# EAGLE library part DRV8313 (library stepOSP)
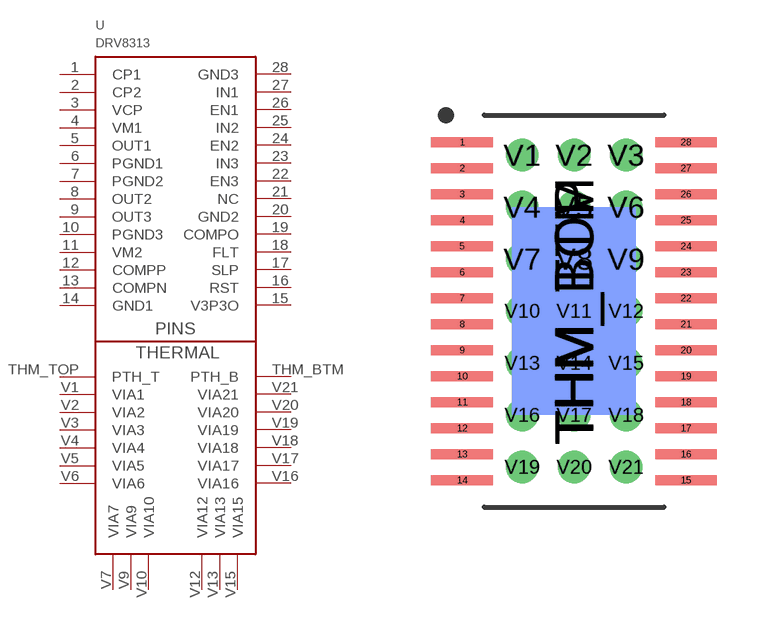
[diagram p6: symbol with the pads of DRV8313; footprint DRV8313]

Designator prefix -

## DRV8313  [DRV8313]
1  CP1
2  CP2
3  VCP
4  VM1
5  OUT1
6  PGND1
7  PGND2
8  OUT2
9  OUT3
10  PGND3
11  VM2
12  COMPP
13  COMPN
14  GND1
15  V3P3O
16  RST
17  SLP
18  FLT
19  COMPO
20  GND2
21  NC
22  EN3
23  IN3
24  EN2
25  IN2
26  EN1
27  IN1
28  GND3
THM_BTM  PTH_B
THM_TOP  PTH_T
V1  VIA1
V2  VIA2
V3  VIA3
V4  VIA4
V5  VIA5
V6  VIA6
V7  VIA7
V9  VIA9
V10  VIA10
V12  VIA12
V13  VIA13
V15  VIA15
V16  VIA16
V17  VIA17
V18  VIA18
V19  VIA19
V20  VIA20
V21  VIA21

## Footprint DRV8313 (pad centres in mm)
smd 1.55 x 0.25: 1 -2.8,4.225; 2 -2.8,3.575; 3 -2.8,2.925; 4 -2.8,2.275; 5 -2.8,1.625; 6 -2.8,0.975; 7 -2.8,0.325; 8 -2.8,-0.325; 9 -2.8,-0.975; 10 -2.8,-1.625; 11 -2.8,-2.275; 12 -2.8,-2.925; 13 -2.8,-3.575; 14 -2.8,-4.225; 15 2.8,-4.225; 16 2.8,-3.575; 17 2.8,-2.925; 18 2.8,-2.275; 19 2.8,-1.625; 20 2.8,-0.975; 21 2.8,-0.325; 22 2.8,0.325; 23 2.8,0.975; 24 2.8,1.625; 25 2.8,2.275; 26 2.8,2.925; 27 2.8,3.575; 28 2.8,4.225
smd 3.1 x 5.18 bottom: THM_BTM 0,0
smd 3.1 x 5.18: THM_TOP 0,0
drill 0.3 pad 0.5: V1 -1.3,3.9; V2 0,3.9; V3 1.3,3.9; V4 -1.3,2.6; V5 0,2.6; V6 1.3,2.6; V7 -1.3,1.3; V8 0,1.3; V9 1.3,1.3; V10 -1.3,0; V11 0,0; V12 1.3,0; V13 -1.3,-1.3; V14 0,-1.3; V15 1.3,-1.3; V16 -1.3,-2.6; V17 0,-2.6; V18 1.3,-2.6; V19 -1.3,-3.9; V20 0,-3.9; V21 1.3,-3.9